# EAGLE library part ESP32-WROOM-32E/UE (library Harrington-ICs v130)
ESP32-WROOM-32E/UE Espressif
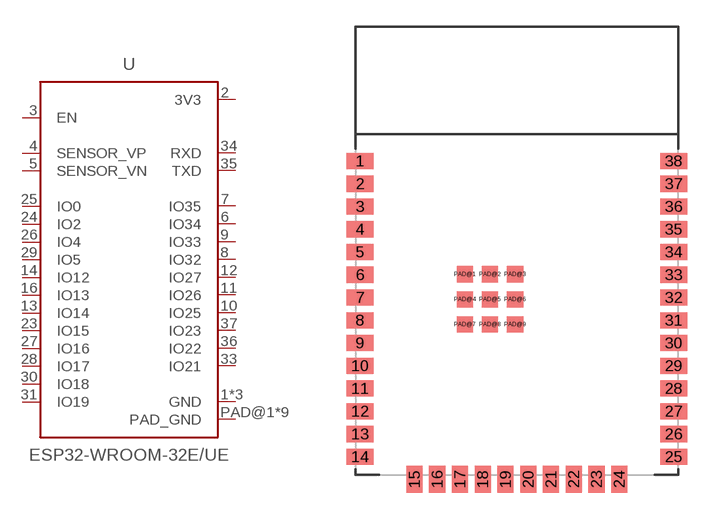
[diagram p15: symbol with the pads of ESP32-WROOM-32E; footprint ESP32-WROOM-32E]

Designator prefix U

## ESP32-WROOM-32E/UE  [ESP32-WROOM-32E]
1  GND
2  3V3
3  EN
4  SENSOR_VP  in
5  SENSOR_VN  in
6  IO34  in
7  IO35  in
8  IO32
9  IO33
10  IO25
11  IO26
12  IO27
13  IO14
14  IO12
15  GND
16  IO13
23  IO15
24  IO2
25  IO0
26  IO4
27  IO16
28  IO17
29  IO5
30  IO18
31  IO19
33  IO21
34  RXD
35  TXD
36  IO22
37  IO23
38  GND
PAD@1  PAD_GND
PAD@2  PAD_GND
PAD@3  PAD_GND
PAD@4  PAD_GND
PAD@5  PAD_GND
PAD@6  PAD_GND
PAD@7  PAD_GND
PAD@8  PAD_GND
PAD@9  PAD_GND

## Footprint ESP32-WROOM-32E (pad centres in mm)
smd 1.5 x 0.9: 1 -8.75,18.01; 2 -8.75,16.74; 3 -8.75,15.47; 4 -8.75,14.2; 5 -8.75,12.93; 6 -8.75,11.66; 7 -8.75,10.39; 8 -8.75,9.12; 9 -8.75,7.85; 10 -8.75,6.58; 11 -8.75,5.31; 12 -8.75,4.04; 13 -8.75,2.77; 14 -8.75,1.5; 25 8.75,1.5; 26 8.75,2.77; 27 8.75,4.04; 28 8.75,5.31; 29 8.75,6.58; 30 8.75,7.85; 31 8.75,9.12; 32 8.75,10.39; 33 8.75,11.66; 34 8.75,12.93; 35 8.75,14.2; 36 8.75,15.47; 37 8.75,16.74; 38 8.75,18.01
smd 0.9 x 1.5: 15 -5.715,0.25; 16 -4.445,0.25; 17 -3.175,0.25; 18 -1.905,0.25; 19 -0.635,0.25; 20 0.635,0.25; 21 1.905,0.25; 22 3.175,0.25; 23 4.445,0.25; 24 5.715,0.25
smd 0.9 x 0.9: PAD@1 -2.9,11.69; PAD@2 -1.5,11.69; PAD@3 -0.1,11.69; PAD@4 -2.9,10.29; PAD@5 -1.5,10.29; PAD@6 -0.1,10.29; PAD@7 -2.9,8.89; PAD@8 -1.5,8.89; PAD@9 -0.1,8.89